# EAGLE library part LB10 (library SLJ_Diodes)
LED BLOCK 10-LED bar graph, DIL, Siemens
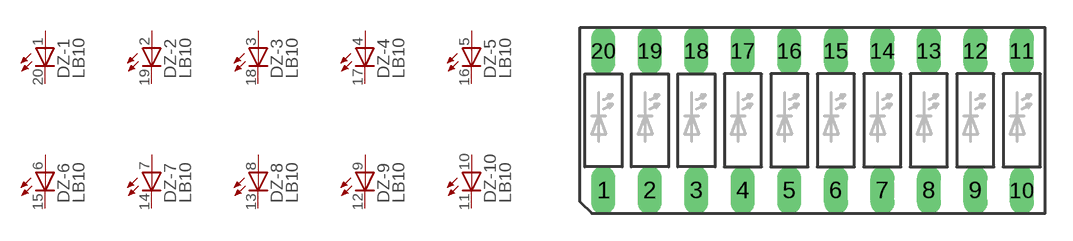
[diagram p3: symbol with the pads of LB10; footprint LB10]

Designator prefix DZ; gates -1=LED-A -2=LED-A -3=LED-A -4=LED-A -5=LED-A -6=LED-A -7=LED-A -8=LED-A -9=LED-A -10=LED-A

## LB10  [LB10]
1  -1:A  pas
2  -2:A  pas
3  -3:A  pas
4  -4:A  pas
5  -5:A  pas
6  -6:A  pas
7  -7:A  pas
8  -8:A  pas
9  -9:A  pas
10  -10:A  pas
11  -10:C  pas
12  -9:C  pas
13  -8:C  pas
14  -7:C  pas
15  -6:C  pas
16  -5:C  pas
17  -4:C  pas
18  -3:C  pas
19  -2:C  pas
20  -1:C  pas

## Footprint LB10 (pad centres in mm)
LED BLOCK 10-LED bar graph, DIL, Siemens
drill 0.813 long: 1 -11.43,-3.81; 2 -8.89,-3.81; 3 -6.35,-3.81; 4 -3.81,-3.81; 5 -1.27,-3.81; 6 1.27,-3.81; 7 3.81,-3.81; 8 6.35,-3.81; 9 8.89,-3.81; 10 11.43,-3.81; 11 11.43,3.81; 12 8.89,3.81; 13 6.35,3.81; 14 3.81,3.81; 15 1.27,3.81; 16 -1.27,3.81; 17 -3.81,3.81; 18 -6.35,3.81; 19 -8.89,3.81; 20 -11.43,3.81